# Altium schematic symbol library Cuon day.SchLib: 5 symbols
Pins are listed as number, name and electrical type; pins without a type are passive.

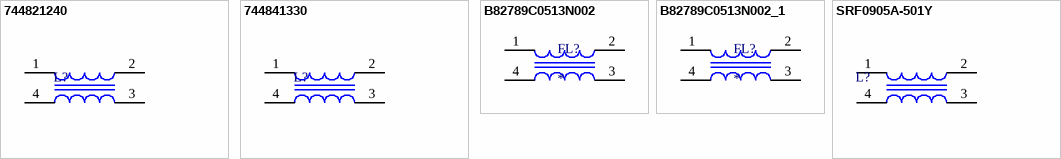
[diagram p0: symbols 744821240 to SRF0905A-501Y]

## 744821240
designator L?
Current Compensated Choke WE-CMB; Manufacturer_Name: Wurth Elektronik; Manufacturer_Part_Number: 744821240; Mouser Part Number: 710-744821240; Mouser Price/Stock: https://www.mouser.co.uk/ProductDetail/Wurth-Elektronik/744821240?qs=AXuZnX5ayYQKqLr8Ey78gQ%3D%3D; Arrow Part Number: *; Arrow Price/Stock: *; Mouser Testing Part Number: *; Mouser Testing Price/Stock: *; Datasheet Link: http://componentsearchengine.com/Datasheets/1/744821240.pdf
footprint WE-CMB_XS5
pins: 1, 2, 3, 4

## 744841330
designator L?
Wurth 30 uH +/-30% Leaded Inductor, 3A Idc, 0.026 Rdc WE-CMB; Manufacturer_Name: Wurth Elektronik; Manufacturer_Part_Number: 744841330; Mouser Part Number: 710-744841330; Mouser Price/Stock: https://www.mouser.co.uk/ProductDetail/Wurth-Elektronik/744841330?qs=AXuZnX5ayYSe5LmBvYAQGw%3D%3D; Arrow Part Number: *; Arrow Price/Stock: *; Mouser Testing Part Number: *; Mouser Testing Price/Stock: *; Datasheet Link: *
footprint WE-CMB_NIZN_XS4
pins: 1, 2, 3, 4

## B82789C0513N002
designator FL?
51 ÂµH @ 100 kHz 2 Line Common Mode Choke Surface Mount 250mA DCR 550mOhm; MF: EPCOS; MP: B82789C0513N002; Availability: In Stock; Check_prices: https://www.snapeda.com/parts/B82789C0513N002/EPCOS/view-part/?ref=eda; SnapEDA_Link: https://www.snapeda.com/parts/B82789C0513N002/EPCOS/view-part/?ref=snap; Value: *; Price: None; Purchase-URL: https://pricing.snapeda.com/search/part/B82789C0513N002/?ref=eda; Package: NON STANDARD-4 TDK
footprint FL_B82789C0513N002
footprint FL_B82789C0513N002
pins: 1, 2, 3, 4

## B82789C0513N002_1
designator FL?
51 ÂµH @ 100 kHz 2 Line Common Mode Choke Surface Mount 250mA DCR 550mOhm; MF: EPCOS; MP: B82789C0513N002; Availability: In Stock; Check_prices: https://www.snapeda.com/parts/B82789C0513N002/EPCOS/view-part/?ref=eda; SnapEDA_Link: https://www.snapeda.com/parts/B82789C0513N002/EPCOS/view-part/?ref=snap; Value: *; Price: None; Purchase-URL: https://pricing.snapeda.com/search/part/B82789C0513N002/?ref=eda; Package: NON STANDARD-4 TDK
footprint FL_B82789C0513N002
footprint FL_B82789C0513N002
pins: 1, 2, 3, 4

## SRF0905A-501Y
designator L?
BOURNS - SRF0905A-501Y - COMMON MODE CHOKE, 500UH, 30%, 1A; Manufacturer_Name: Bourns; Manufacturer_Part_Number: SRF0905A-501Y; Mouser Part Number: 652-SRF0905A-501Y; Mouser Price/Stock: https://www.mouser.co.uk/ProductDetail/Bourns/SRF0905A-501Y?qs=xGZga0pI15NH%252BGOt1E7C1w%3D%3D; Arrow Part Number: SRF0905A-501Y; Arrow Price/Stock: https://www.arrow.com/en/products/srf0905a-501y/bourns?region=nac; Mouser Testing Part Number: *; Mouser Testing Price/Stock: *; Datasheet Link: https://www.bourns.com/docs/Product-Datasheets/SRF0905A.pdf
footprint SRF0905A
pins: 1, 2, 3, 4